# Altium footprint library QFN封装库.PcbLib: 7 footprints
Each footprint in its own frame and in the unit in brackets; x right, y up, seen from the top. Pads: shape width x height; smd on the part's side, far side on the other; paste and mask are expansions set on the pad; w line width, h text height; cw(c..) or ccw(c..) is an arc to the next point about the centre after c.
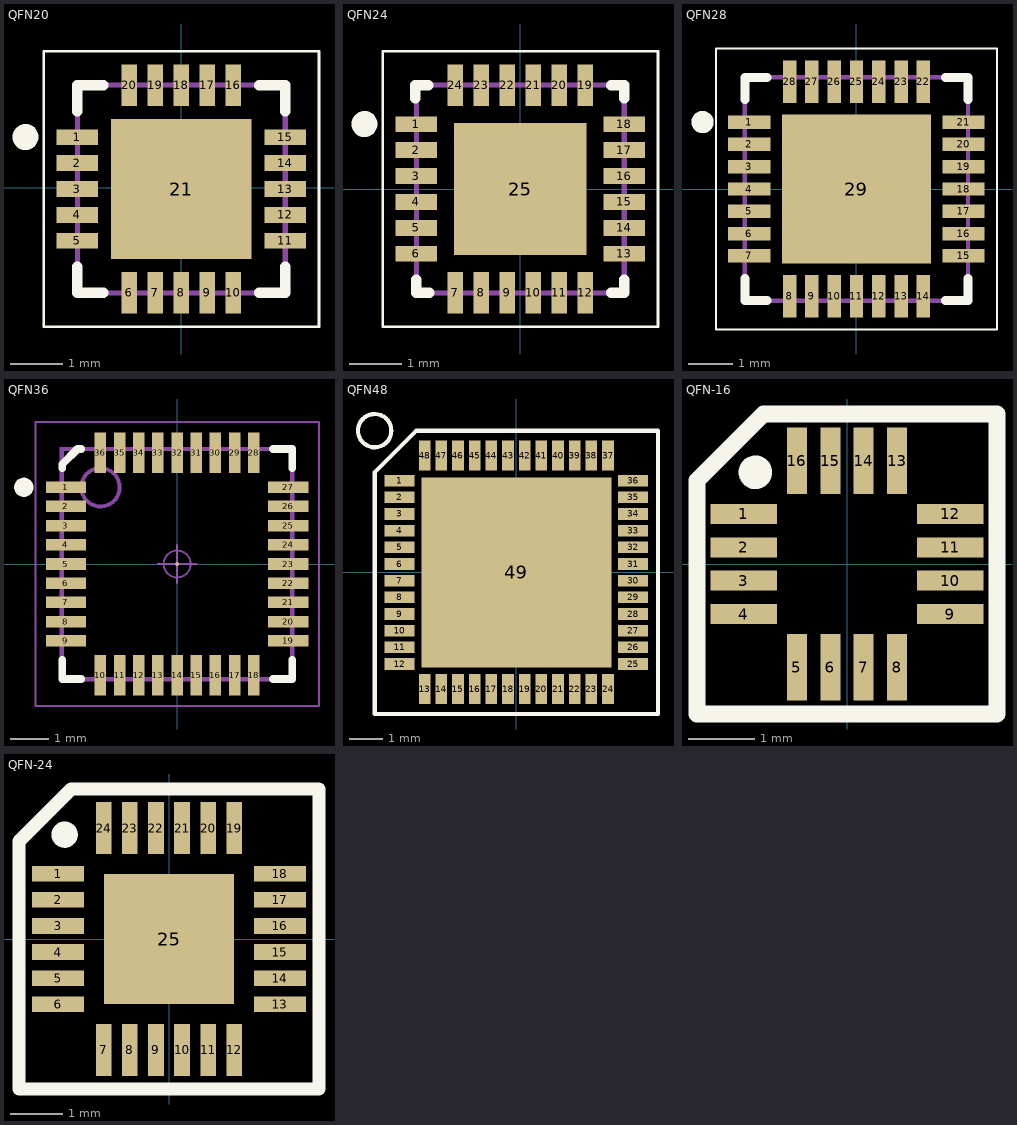
[diagram p0: the footprints below, top view; thin cyan lines are the x and y axes]

## QFN20 [mm]
pads (21):
  rect 0.8x0.3 smd: 1(-2,0.975) 2(-2,0.475) 3(-2,-0.025) 4(-2,-0.525) 5(-2,-1.025) 11(2,-1.025) 12(2,-0.525) 13(2,-0.025) 14(2,0.475) 15(2,0.975)
  rect 0.3x0.8 smd: 6(-1,-2.025) 7(-0.5,-2.025) 8(0,-2.025) 9(0.5,-2.025) 10(1,-2.025) 16(1,1.975) 17(0.5,1.975) 18(0,1.975) 19(-0.5,1.975) 20(-1,1.975)
  rect 2.7x2.7 smd: 21(0,-0.025)
Top Overlay:
  circle w0.25: c-3,0.975 r0.125
  circle w0.05: c0,-0.025 r0.35
  lines w0.05: -0.5,-0.025 0.5,-0.025 ; 0,-0.525 0,0.475 ; -2.65,-2.675 2.65,-2.675 2.65,2.625 -2.65,2.625 -2.65,-2.675
  lines w0.2: -2,-1.525 -2,-2.025 -1.5,-2.025 ; -2,1.475 -2,1.975 -1.5,1.975 ; 1.5,-2.025 2,-2.025 2,-1.525 ; 1.5,1.975 2,1.975 2,1.475
Mechanical 15:
  lines w0.1: -2,-2.025 2,-2.025 2,1.975 -2,1.975 -2,-2.025
  text "1" at 0.45,-0.19 h0.75
3D body: height 0.78, standoff -0.02, extent -2.007,-2.039 2.013,1.981

## QFN24 [mm]
pads (25):
  rect 0.8x0.3 smd: 1(-2,1.25) 2(-2,0.75) 3(-2,0.25) 4(-2,-0.25) 5(-2,-0.75) 6(-2,-1.25) 13(2,-1.25) 14(2,-0.75) 15(2,-0.25) 16(2,0.25) 17(2,0.75) 18(2,1.25)
  rect 0.3x0.8 smd: 7(-1.25,-2) 8(-0.75,-2) 9(-0.25,-2) 10(0.25,-2) 11(0.75,-2) 12(1.25,-2) 19(1.25,2) 20(0.75,2) 21(0.25,2) 22(-0.25,2) 23(-0.75,2) 24(-1.25,2)
  rect 2.55x2.55 smd: 25(0,0)
Top Overlay:
  circle w0.05: c0,0 r0.35
  circle w0.25: c-3,1.25 r0.125
  lines w0.05: -0.5,0 0.5,0 ; 0,-0.5 0,0.5 ; -2.65,-2.65 -2.65,2.65 2.65,2.65 2.65,-2.65 -2.65,-2.65
  lines w0.2: -2.025,1.75 -2.025,2 -1.775,2 ; -2,-1.75 -2,-2 -1.75,-2 ; 1.75,-2 2,-2 2,-1.75 ; 1.75,2 2,2 2,1.75
Mechanical 15:
  lines w0.1: -2,-2 -2,2 2,2 2,-2 -2,-2
  text "1" at 0.45,-0.164 h0.75
3D body: height 1, standoff 0, extent -2.007,-1.993 1.993,2.007

## QFN28 [mm]
pads (29):
  rect 0.95x0.3 smd: 1(-2.4,1.5) 2(-2.4,1) 3(-2.4,0.5) 4(-2.4,0) 5(-2.4,-0.5) 6(-2.4,-1) 7(-2.4,-1.5) 15(2.4,-1.5) 16(2.4,-1) 17(2.4,-0.5) 18(2.4,0) 19(2.4,0.5) 20(2.4,1) 21(2.4,1.5)
  rect 0.3x0.95 smd: 8(-1.5,-2.4) 9(-1,-2.4) 10(-0.5,-2.4) 11(0,-2.4) 12(0.5,-2.4) 13(1,-2.4) 14(1.5,-2.4) 22(1.5,2.4) 23(1,2.4) 24(0.5,2.4) 25(0,2.4) 26(-0.5,2.4) 27(-1,2.4) 28(-1.5,2.4)
  rect 3.35x3.35 smd: 29(0,0)
Top Overlay:
  circle w0.25: c-3.45,1.5 r0.125
  circle w0.05: c0,0 r0.35
  lines w0.05: -0.5,0 0.5,0 ; 0,-0.5 0,0.5 ; -3.15,-3.15 3.15,-3.15 3.15,3.15 -3.15,3.15 -3.15,-3.15
  lines w0.2: -2.5,-2 -2.5,-2.5 -2,-2.5 ; -2.5,2 -2.5,2.5 -2,2.5 ; 2,-2.5 2.5,-2.5 2.5,-2 ; 2,2.5 2.5,2.5 2.5,2
Mechanical 15:
  lines w0.1: -2.5,-2.5 -2.5,2.5 2.5,2.5 2.5,-2.5 -2.5,-2.5
  text "1" at 0.45,-0.164 h0.75
3D body: height 0.9, standoff 0, extent -2.52,-2.525 2.52,2.515

## QFN36 [mm]
pads (37):
  rect 1.05x0.3 smd: 1(-2.9,2) 2(-2.9,1.5) 3(-2.9,1) 4(-2.9,0.5) 5(-2.9,0) 6(-2.9,-0.5) 7(-2.9,-1) 8(-2.9,-1.5) 9(-2.9,-2) 19(2.9,-2) 20(2.9,-1.5) 21(2.9,-1) 22(2.9,-0.5) 23(2.9,0) 24(2.9,0.5) 25(2.9,1) 26(2.9,1.5) 27(2.9,2)
  rect 0.3x1.05 smd: 10(-2,-2.9) 11(-1.5,-2.9) 12(-1,-2.9) 13(-0.5,-2.9) 14(0,-2.9) 15(0.5,-2.9) 16(1,-2.9) 17(1.5,-2.9) 18(2,-2.9) 28(2,2.9) 29(1.5,2.9) 30(1,2.9) 31(0.5,2.9) 32(0,2.9) 33(-0.5,2.9) 34(-1,2.9) 35(-1.5,2.9) 36(-2,2.9)
  round 0.1 smd: 37(0,0)
Top Overlay:
  circle w0.25: c-4,2 r0.125
  lines w0.2: -3,-2.5 -3,-3 -2.5,-3 ; -3,2.5 -3,2.6 -2.6,3 -2.5,3 ; 2.5,-3 3,-3 3,-2.5 ; 2.5,3 3,3 3,2.5
Mechanical 15:
  circle w0.1: c-2,2 r0.5
  lines w0.1: -3,-3 3,-3 3,3 -3,3 -3,-3
  text "1" at 0.45,-0.164 h0.75
Mechanical 16:
  circle w0.05: c0,0 r0.35
  lines w0.001: -3.05,-3.05 3.05,-3.05 3.05,3.05 -3.05,3.05 -3.05,-3.05
  lines w0.05: -0.5,0 0.5,0 ; 0,-0.5 0,0.5 ; -3.7,-3.7 3.7,-3.7 3.7,3.7 -3.7,3.7 -3.7,-3.7
3D body: height 0.9, standoff 0.01, extent -3.103,-3.099 3.103,3.106

## QFN48 [mm]
pads (49):
  rect 0.9x0.35 smd: 1(-3.5,2.75) 2(-3.5,2.25) 3(-3.5,1.75) 4(-3.5,1.25) 5(-3.5,0.75) 6(-3.5,0.25) 7(-3.5,-0.25) 8(-3.5,-0.75) 9(-3.5,-1.25) 10(-3.5,-1.75) 11(-3.5,-2.25) 12(-3.5,-2.75) 25(3.5,-2.75) 26(3.5,-2.25) 27(3.5,-1.75) 28(3.5,-1.25) 29(3.5,-0.75) 30(3.5,-0.25) 31(3.5,0.25) 32(3.5,0.75) 33(3.5,1.25) 34(3.5,1.75) 35(3.5,2.25) 36(3.5,2.75)
  rect 0.35x0.9 smd: 13(-2.75,-3.5) 14(-2.25,-3.5) 15(-1.75,-3.5) 16(-1.25,-3.5) 17(-0.75,-3.5) 18(-0.25,-3.5) 19(0.25,-3.5) 20(0.75,-3.5) 21(1.25,-3.5) 22(1.75,-3.5) 23(2.25,-3.5) 24(2.75,-3.5) 37(2.75,3.5) 38(2.25,3.5) 39(1.75,3.5) 40(1.25,3.5) 41(0.75,3.5) 42(0.25,3.5) 43(-0.25,3.5) 44(-0.75,3.5) 45(-1.25,3.5) 46(-1.75,3.5) 47(-2.25,3.5) 48(-2.75,3.5)
  rect 5.7x5.7 smd: 49(0,0)
Top Overlay:
  circle w0.127: c-4.25,4.25 r0.5
  lines w0.127: -4.25,-4.25 -4.25,3 -3,4.25 4.25,4.25 4.25,-4.25 -4.25,-4.25
3D body: height 0.78, standoff -0.02, extent -3.51,-3.51 3.51,3.51

## QFN-16 [mm]
height 0.9
pads (16):
  rect 1x0.3 smd: 1(-1.55,0.75) 2(-1.55,0.25) 3(-1.55,-0.25) 4(-1.55,-0.75) 9(1.55,-0.75) 10(1.55,-0.25) 11(1.55,0.25) 12(1.55,0.75)
  rect 0.3x1 smd: 5(-0.75,-1.55) 6(-0.25,-1.55) 7(0.25,-1.55) 8(0.75,-1.55) 13(0.75,1.55) 14(0.25,1.55) 15(-0.25,1.55) 16(-0.75,1.55)
Top Overlay:
  circle w0.254: c-1.375,1.375 r0.125
  lines w0.254: -2.25,-2.25 2.25,-2.25 2.25,2.25 -1.25,2.25 -2.25,1.25 -2.25,-2.25
3D body: height 0.92, standoff 0, extent -1.5,-1.5 1.5,1.5

## QFN-24 [mm]
pads (25):
  rect 1x0.3 smd: 1(-2.125,1.25) 2(-2.125,0.75) 3(-2.125,0.25) 4(-2.125,-0.25) 5(-2.125,-0.75) 6(-2.125,-1.25) 13(2.125,-1.25) 14(2.125,-0.75) 15(2.125,-0.25) 16(2.125,0.25) 17(2.125,0.75) 18(2.125,1.25)
  rect 0.3x1 smd: 7(-1.25,-2.125) 8(-0.75,-2.125) 9(-0.25,-2.125) 10(0.25,-2.125) 11(0.75,-2.125) 12(1.25,-2.125) 19(1.25,2.125) 20(0.75,2.125) 21(0.25,2.125) 22(-0.25,2.125) 23(-0.75,2.125) 24(-1.25,2.125)
  rect 2.5x2.5 smd: 25(0,0)
Top Overlay:
  circle w0.254: c-2,2 r0.125
  lines w0.254: -2.875,-2.875 -2.875,1.25 -2.875,1.875 -1.875,2.875 -1.25,2.875 2.875,2.875 2.875,-2.875 -2.875,-2.875
3D body: height 0.9, standoff 0, extent -2.002,-2.002 2.002,2.002